# EAGLE library part DRV8353RSRGZT (library DRV8353RSRGZT)
Check availability <https://pricing.snapeda.com/parts/DRV8353RSRGZT/Texas%20Instruments/view-part?ref=eda>
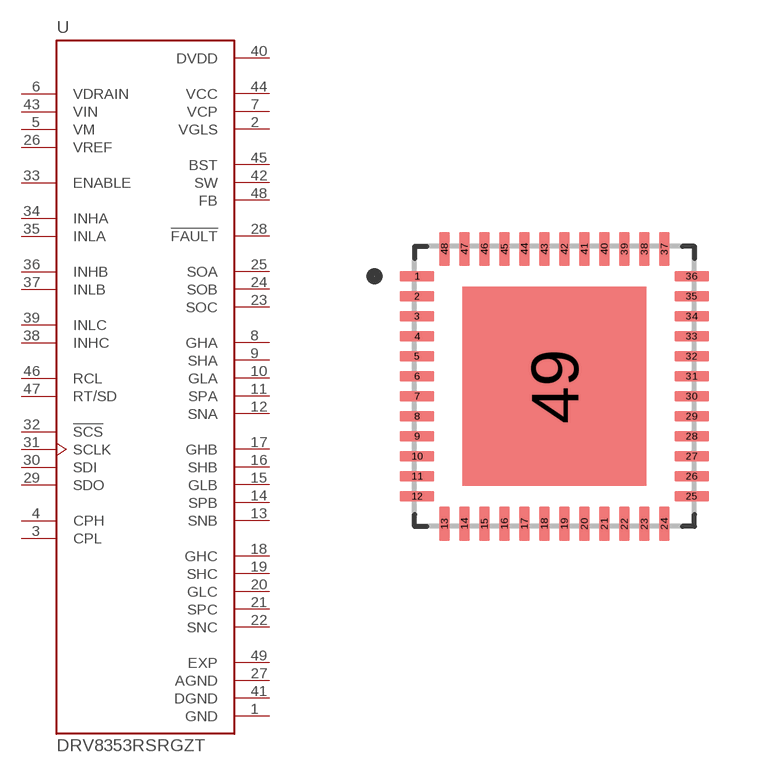
[diagram p0: symbol with the pads of QFN50P700X700X100-49N; footprint QFN50P700X700X100-49N]

Designator prefix U

## DRV8353RSRGZT (Availability: In Stock; Check_prices: https://www.snapeda.com/parts/DRV8353RSRGZT/Texas+Instruments/view-part/?ref=eda; Description: 102-V max 3-phase smart gate driver with buck regulator & current shunt amplifiers; MF: Texas Instruments; MP: DRV8353RSRGZT; Package: VQFN-48 Texas Instruments; Price: None; SnapEDA_Link: https://www.snapeda.com/parts/DRV8353RSRGZT/Texas+Instruments/view-part/?ref=snap)  [QFN50P700X700X100-49N]
1  GND  pwr
2  VGLS  out
3  CPL  pas
4  CPH  pas
5  VM  in
6  VDRAIN  in
7  VCP  out
8  GHA  out
9  SHA  in
10  GLA  out
11  SPA  in
12  SNA  in
13  SNB  in
14  SPB  in
15  GLB  out
16  SHB  in
17  GHB  out
18  GHC  out
19  SHC  in
20  GLC  out
21  SPC  in
22  SNC  in
23  SOC  out
24  SOB  out
25  SOA  out
26  VREF  in
27  AGND  pwr
28  !FAULT  out
29  SDO  out
30  SDI  in
31  SCLK  in
32  !SCS  in
33  ENABLE  in
34  INHA  in
35  INLA  in
36  INHB  in
37  INLB  in
38  INHC  in
39  INLC  in
40  DVDD  pwr
41  DGND  pwr
42  SW  out
43  VIN  in
44  VCC  out
45  BST  pas
46  RCL  in
47  RT/SD  in
48  FB  in
49  EXP  pwr

## Footprint QFN50P700X700X100-49N (pad centres in mm)
smd 0.86 x 0.26: 1 -3.435,2.75; 2 -3.435,2.25; 3 -3.435,1.75; 4 -3.435,1.25; 5 -3.435,0.75; 6 -3.435,0.25; 7 -3.435,-0.25; 8 -3.435,-0.75; 9 -3.435,-1.25; 10 -3.435,-1.75; 11 -3.435,-2.25; 12 -3.435,-2.75; 25 3.435,-2.75; 26 3.435,-2.25; 27 3.435,-1.75; 28 3.435,-1.25; 29 3.435,-0.75; 30 3.435,-0.25; 31 3.435,0.25; 32 3.435,0.75; 33 3.435,1.25; 34 3.435,1.75; 35 3.435,2.25; 36 3.435,2.75
smd 0.26 x 0.86: 13 -2.75,-3.435; 14 -2.25,-3.435; 15 -1.75,-3.435; 16 -1.25,-3.435; 17 -0.75,-3.435; 18 -0.25,-3.435; 19 0.25,-3.435; 20 0.75,-3.435; 21 1.25,-3.435; 22 1.75,-3.435; 23 2.25,-3.435; 24 2.75,-3.435; 37 2.75,3.435; 38 2.25,3.435; 39 1.75,3.435; 40 1.25,3.435; 41 0.75,3.435; 42 0.25,3.435; 43 -0.25,3.435; 44 -0.75,3.435; 45 -1.25,3.435; 46 -1.75,3.435; 47 -2.25,3.435; 48 -2.75,3.435
smd 4.6 x 4.975: 49 0,0